# EAGLE library part TDA7266SA (library Audio-Power-amplifier)
7W+7W DUAL BRIDGE AMPLIFIER
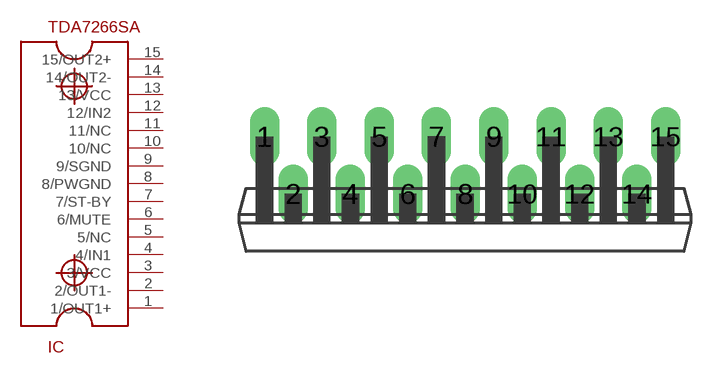
[diagram p64: symbol with the pads of CLIPWATT15; footprint CLIPWATT15]

Designator prefix IC

## TDA7266SA  [CLIPWATT15]
1  1/OUT1+  out
2  2/OUT1-  out
3  3/VCC  pwr
4  4/IN1  in
5  5/NC  nc
6  6/MUTE
7  7/ST-BY
8  8/PWGND  pwr
9  9/SGND  pwr
10  10/NC  nc
11  11/NC  nc
12  12/IN2  in
13  13/VCC  pwr
14  14/OUT2-  out
15  15/OUT2+  out

## Footprint CLIPWATT15 (pad centres in mm)
drill 0.8 pad 1.27 long: 1 -8.89,2.54; 2 -7.62,0; 3 -6.35,2.54; 4 -5.08,0; 5 -3.81,2.54; 6 -2.54,0; 7 -1.27,2.54; 8 0,0; 9 1.27,2.54; 10 2.54,0; 11 3.81,2.54; 12 5.08,0; 13 6.35,2.54; 14 7.62,0; 15 8.89,2.54